# Altium footprint library 贴片铝电解电容.PcbLib: 16 footprints
Each footprint in its own frame and in the unit in brackets; x right, y up, seen from the top. Pads: shape width x height; smd on the part's side, far side on the other; paste and mask are expansions set on the pad; w line width, h text height; cw(c..) or ccw(c..) is an arc to the next point about the centre after c.
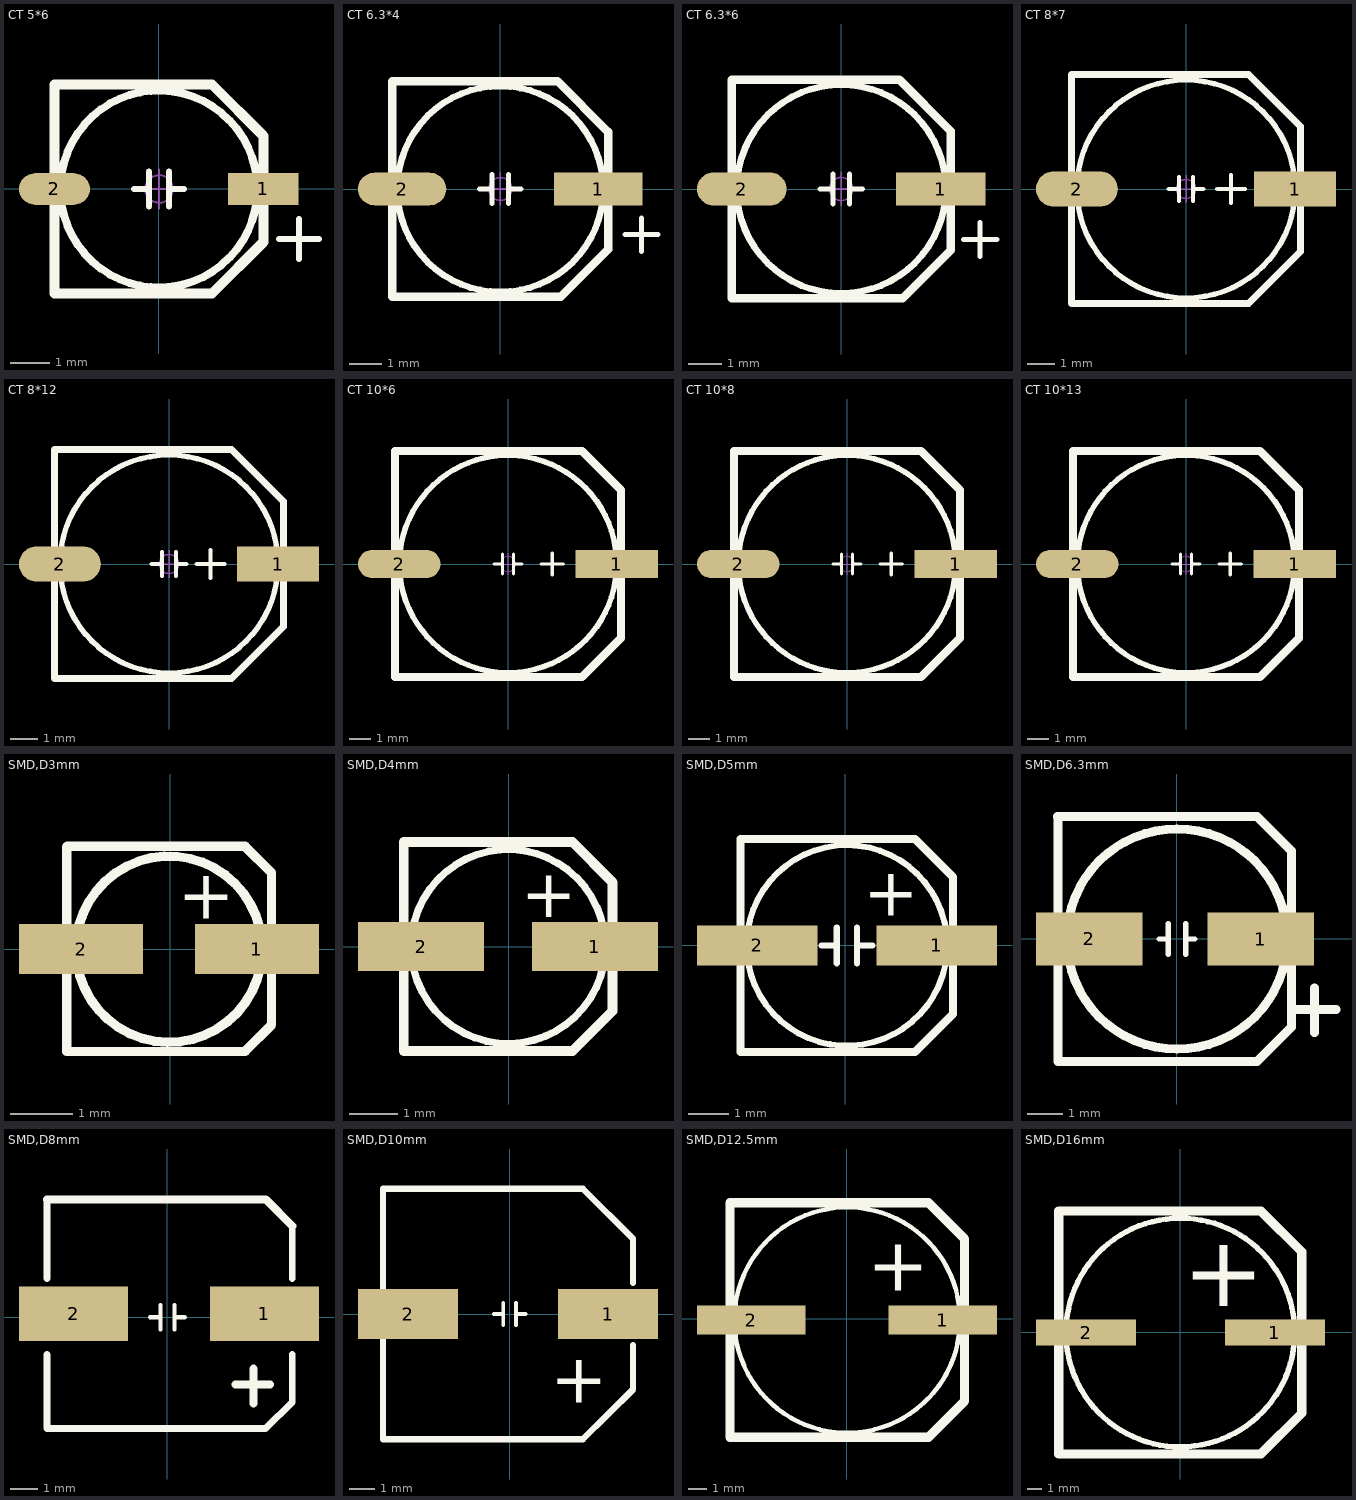
[diagram p0: the footprints below, top view; thin cyan lines are the x and y axes]

## CT 5*6 [mm] "直径5mm，高6mm"
pads (2):
  rect 1.8x0.8 smd paste-0.051: 1(2.65,0)
  oval 1.8x0.8 smd paste+0: 2(-2.65,0)
Top Overlay:
  circle w0.2: c0,0 r2.5
  lines w0.152: -0.635,0 -0.254,0 ; -0.254,-0.445 -0.254,0.445 ; 0.254,-0.445 0.254,0.445 ; 0.254,0 0.635,0 ; 3.048,-1.27 4.064,-1.27 ; 3.556,-1.778 3.556,-0.762
  lines w0.254: -2.65,-2.65 1.35,-2.65 2.65,-1.35 2.65,1.35 1.35,2.65 -2.65,2.65 -2.65,-2.65
Mechanical 15:
  circle w0.05: c0,0 r0.35
  lines w0.05: -0.5,0 0.5,0 ; 0,-0.5 0,0.5
3D body "CT 5X6-R.STEP": height 6, standoff -0.01, extent -2.95,-2.65 2.95,2.65

## CT 6.3*4 [mm] "直径6.3mm，高4mm"
pads (2):
  rect 2.7x1 smd paste-0.102: 1(3,0)
  oval 2.7x1 smd paste-0.102: 2(-3,0)
Top Overlay:
  circle w0.2: c0,0 r3.15
  lines w0.152: -0.635,0 -0.254,0 ; -0.254,-0.445 -0.254,0.445 ; 0.254,-0.445 0.254,0.445 ; 0.254,0 0.635,0 ; 3.81,-1.397 4.826,-1.397 ; 4.318,-1.905 4.318,-0.889
  lines w0.254: -3.3,-3.3 1.85,-3.3 3.3,-1.85 3.3,1.75 1.75,3.3 -3.3,3.3 -3.3,-3.3
Mechanical 15:
  circle w0.05: c0,0 r0.35
  lines w0.05: -0.5,0 0.5,0 ; 0,-0.5 0,0.5
3D body "CT 6X4-R.STEP": height 4, standoff -0.01, extent -3.5,-3.15 3.5,3.15

## CT 6.3*6 [mm] "直径6.3mm，高6mm"
pads (2):
  rect 2.7x1 smd paste-0.102: 1(3,0)
  oval 2.7x1 smd paste-0.102: 2(-3,0)
Top Overlay:
  circle w0.2: c0,0 r3.15
  lines w0.152: -0.635,0 -0.254,0 ; -0.254,-0.445 -0.254,0.445 ; 0.254,-0.445 0.254,0.445 ; 0.254,0 0.635,0 ; 3.683,-1.524 4.699,-1.524 ; 4.191,-2.032 4.191,-1.016
  lines w0.254: -3.3,-3.3 1.85,-3.3 3.3,-1.85 3.3,1.75 1.75,3.3 -3.3,3.3 -3.3,-3.3
Mechanical 15:
  circle w0.05: c0,0 r0.35
  lines w0.05: -0.5,0 0.5,0 ; 0,-0.5 0,0.5
3D body "CT 6X6-R.STEP": height 6, standoff -0.01, extent -3.5,-3.15 3.5,3.15

## CT 8*7 [mm] "直径8mm，高7mm"
pads (2):
  rect 3x1.3 smd paste-0.102: 1(4,0)
  oval 3x1.3 smd paste-0.102: 2(-4,0)
Top Overlay:
  circle w0.2: c0,0 r4
  lines w0.152: -0.635,0 -0.254,0 ; -0.254,-0.445 -0.254,0.445 ; 0.254,-0.445 0.254,0.445 ; 0.254,0 0.635,0 ; 1.143,0 2.159,0 ; 1.651,-0.508 1.651,0.508
  lines w0.254: -4.2,-4.2 -4.2,4.2 2.3,4.2 4.2,2.3 4.2,-2.3 2.3,-4.2 -4.2,-4.2
Mechanical 15:
  circle w0.05: c0,0 r0.35
  lines w0.05: -0.5,0 0.5,0 ; 0,-0.5 0,0.5
3D body "CT 8X7-R.STEP": height 7, standoff -0.01, extent -4.5,-4.15 4.5,4.15

## CT 8*12 [mm] "直径8mm，高12mm"
pads (2):
  rect 3x1.3 smd paste-0.102: 1(4,0)
  oval 3x1.3 smd paste-0.102: 2(-4,0)
Top Overlay:
  circle w0.2: c0,0 r4
  lines w0.152: -0.635,0 -0.254,0 ; -0.254,-0.445 -0.254,0.445 ; 0.254,-0.445 0.254,0.445 ; 0.254,0 0.635,0 ; 1.016,0 2.032,0 ; 1.524,-0.508 1.524,0.508
  lines w0.254: -4.2,-4.2 2.3,-4.2 4.2,-2.3 4.2,2.3 2.3,4.2 -4.2,4.2 -4.2,-4.2
Mechanical 15:
  circle w0.05: c0,0 r0.35
  lines w0.05: -0.5,0 0.5,0 ; 0,-0.5 0,0.5
3D body "CT 8X12-R.STEP": height 12, standoff -0.01, extent -4.5,-4.15 4.5,4.15

## CT 10*6 [mm] "直径10mm，高6mm"
pads (2):
  rect 3.8x1.3 smd paste-0.102: 1(5,0)
  oval 3.8x1.3 smd paste-0.102: 2(-5,0)
Top Overlay:
  circle w0.254: c0,0 r5
  lines w0.152: -0.635,0 -0.254,0 ; -0.254,-0.445 -0.254,0.445 ; 0.254,-0.445 0.254,0.445 ; 0.254,0 0.635,0 ; 1.524,0 2.54,0 ; 2.032,-0.508 2.032,0.508
  lines w0.381: 5.191,-3.413 3.404,-5.2 -5.2,-5.2 -5.2,5.2 3.404,5.2 5.2,3.404 5.2,-3.404
Mechanical 15:
  circle w0.05: c0,0 r0.35
  lines w0.05: -0.5,0 0.5,0 ; 0,-0.5 0,0.5
3D body "CT 10X6-R.STEP": height 6, standoff -0.01, extent -5.8,-5.15 5.8,5.15

## CT 10*8 [mm] "直径10mm，高8mm"
pads (2):
  rect 3.8x1.3 smd paste-0.102: 1(5,0)
  oval 3.8x1.3 smd paste-0.102: 2(-5,0)
Top Overlay:
  circle w0.254: c0,0 r5
  lines w0.152: -0.635,0 -0.254,0 ; -0.254,-0.445 -0.254,0.445 ; 0.254,-0.445 0.254,0.445 ; 0.254,0 0.635,0 ; 1.524,0 2.54,0 ; 2.032,-0.508 2.032,0.508
  lines w0.381: 5.191,-3.413 3.404,-5.2 -5.2,-5.2 -5.2,5.2 3.404,5.2 5.2,3.404 5.2,-3.404
Mechanical 15:
  circle w0.05: c0,0 r0.35
  lines w0.05: -0.5,0 0.5,0 ; 0,-0.5 0,0.5
3D body "CT 10X8-C.STEP": height 8, standoff -0.01, extent -5.8,-5.15 5.8,5.15

## CT 10*13 [mm] "直径10mm，高13mm"
pads (2):
  rect 3.8x1.3 smd paste-0.102: 1(5,0)
  oval 3.8x1.3 smd paste-0.102: 2(-5,0)
Top Overlay:
  circle w0.254: c0,0 r5
  lines w0.152: -0.635,0 -0.254,0 ; -0.254,-0.445 -0.254,0.445 ; 0.254,-0.445 0.254,0.445 ; 0.254,0 0.635,0 ; 1.524,0 2.54,0 ; 2.032,-0.508 2.032,0.508
  lines w0.381: 5.191,-3.413 3.404,-5.2 -5.2,-5.2 -5.2,5.2 3.404,5.2 5.2,3.404 5.2,-3.404
Mechanical 15:
  circle w0.05: c0,0 r0.35
  lines w0.05: -0.5,0 0.5,0 ; 0,-0.5 0,0.5
3D body "CT 10X13-R.STEP": height 13, standoff -0.01, extent -5.8,-5.15 5.8,5.15

## SMD,D3mm [mm]
pads (2):
  rect 2x0.8 smd: 1(1.397,0) 2(-1.438,0)
Top Overlay:
  lines w0.152: -1.669,1.647 -1.669,-1.651 1.202,-1.651 ; -1.662,1.653 1.207,1.653 1.631,1.229 1.631,-1.222 1.207,-1.646 ; -1.38,-0.634 cw(c-0.02,-0.003) -1.38,-0.636
  text "+" at 1.036,1.174 h0.8
3D body "ALU-A_3.0x3.3x5.4.STEP": height 5.4, standoff 0, extent -1.8,-1.651 1.8,1.649

## SMD,D4mm [mm]
pads (2):
  rect 2.6x1 smd: 1(1.778,0) 2(-1.801,0)
Top Overlay:
  lines w0.152: -1.784,-0.921 cw(c-0.009,0) -1.783,-0.924
  lines w0.203: -2.159,-2.15 -2.159,2.15 1.317,2.15 2.142,1.324 2.142,-1.325 1.317,-2.151 -2.158,-2.151
  text "+" at 1.408,1.46 h1
3D body "ALU-B_4.0x4.3x5.4.STEP": height 5.4, standoff 0, extent -2.3,-2.15 2.3,2.15

## SMD,D5mm [mm]
pads (2):
  rect 3x1 smd: 1(2.286,0) 2(-2.191,0)
Top Overlay:
  lines w0.152: -2.129,-1.235 cw(c0.045,0) -2.126,-1.239 ; -0.59,0 -0.209,0 ; -0.209,-0.445 -0.209,0.445 ; 0.299,-0.445 0.299,0.445 ; 0.299,0 0.68,0
  lines w0.203: -2.606,-2.654 -2.606,2.654 ; -2.605,2.654 1.744,2.654 1.744,2.654 2.693,1.706 ; -2.604,-2.656 1.744,-2.656 1.745,-2.655 2.693,-1.707 2.693,1.706 ; 2.069,2.33 2.693,1.706
  text "+" at 1.841,1.777 h1.2
3D body "ALU-C_5.0x5.3x5.4.STEP": height 5.41, standoff 0, extent -2.823,-2.65 3.077,2.65

## SMD,D6.3mm [mil]
pads (2):
  rect 120x60 smd: 1(94.18,-0.02) 2(-98.73,-0.02)
Top Overlay:
  circle w10: c0,0 r124.02
  lines w0.3: -134.76,137.78 90.24,137.78 127.04,100.98 127.04,51.56
  lines w6: -20,0 -10,0 ; -10,-17.5 -10,17.5 ; 10,-17.5 10,17.5 ; 10,0 20,0
  lines w10: -134.76,137.39 -134.37,137.78 90.24,137.78 129.04,98.98 129.04,-99.02 ; -133.76,137.39 -133.76,-137.81 90.24,-137.81 129.04,-99.02 ; 129,-79.19 179,-79.19 ; 129.04,-50.59 129.04,-99.02 ; 155,-105.19 155,-55.19
3D body "ALU-D_6.3x6.6x5.4.STEP": height 212.6, standoff 0, extent -137.8,-129.92 137.79,129.92

## SMD,D8mm [mm]
pads (2):
  rect 4x2 smd: 1(3.556,0.127) 2(-3.444,0.127)
Top Overlay:
  lines w0.152: -0.635,0 -0.254,0 ; -0.254,-0.445 -0.254,0.445 ; 0.254,-0.445 0.254,0.445 ; 0.254,0 0.635,0
  lines w0.254: -4.42,-1.372 -4.42,-4.082 3.602,-4.082 4.576,-3.108 4.576,-1.372 ; -4.42,1.422 -4.42,4.318 3.607,4.318 4.576,3.349 4.576,1.422
  lines w0.3: -4.42,4.318 3.607,4.318 4.576,3.349 4.576,3.344 ; 2.489,-2.473 3.759,-2.473 ; 3.15,-3.159 3.15,-1.889
3D body "ALU-F_8.0x8.3x10.2.STEP": height 10.2, standoff 0, extent -4.823,-4.023 5.077,4.277

## SMD,D10mm [mm]
pads (2):
  rect 4x2 smd: 1(3.936,0) 2(-4.064,0)
Top Overlay:
  lines w0.152: -0.635,0 -0.254,0 ; -0.254,-0.445 -0.254,0.445 ; 0.254,-0.445 0.254,0.445 ; 0.254,0 0.635,0
  lines w0.254: -5.064,-1.295 -5.064,-5.004 ; -5.064,1.295 -5.064,5.004 ; -0.064,-5.004 -5.064,-5.004 ; 4.935,-1.245 4.935,-3.023 2.933,-5.004 -5.064,-5.004 ; 4.935,1.245 4.935,3.004 2.933,5.004 -5.064,5.004 ; -5.064,-5.004 -5.064,5.004
  text "+" at 3.924,-1.854 h2
3D body "ALU-G_10.0x10.3x10.2.STEP": height 10.2, standoff 0, extent -5.928,-5.12 5.672,5.18

## SMD,D12.5mm [mm]
pads (2):
  rect 6x1.6 smd: 1(5.339,-0.085) 2(-5.286,-0.085)
Top Overlay:
  circle w0.254: c0.036,-0.085 r6.25
  lines w0.508: -6.458,-6.579 4.54,-6.579 4.542,-6.577 6.541,-4.578 6.541,4.413 4.54,6.415 -6.458,6.415 -6.458,-6.579
  text "+" at 4.589,4.084 h3

## SMD,D16mm [mm]
pads (2):
  rect 7x1.8 smd: 1(6.625,-0.016) 2(-6.591,-0.016)
Top Overlay:
  lines w0.381: -7.69,-2.206 cw(c0.004,-0.017) -7.676,-2.255
  lines w0.635: -8.497,-8.512 -8.498,-8.513 ; -8.498,-8.513 -8.498,8.484 ; -8.498,-8.513 5.643,-8.513 8.502,-5.654 8.502,5.626 5.643,8.484 -8.498,8.484 ; -8.498,8.484 -8.497,8.483
  text "+" at 5.895,6.071 h5